# Altium footprint library TEH-C.PcbLib: 1 footprints
Each footprint in its own frame and in the unit in brackets; x right, y up, seen from the top. Pads: shape width x height; smd on the part's side, far side on the other; paste and mask are expansions set on the pad; w line width, h text height; cw(c..) or ccw(c..) is an arc to the next point about the centre after c.
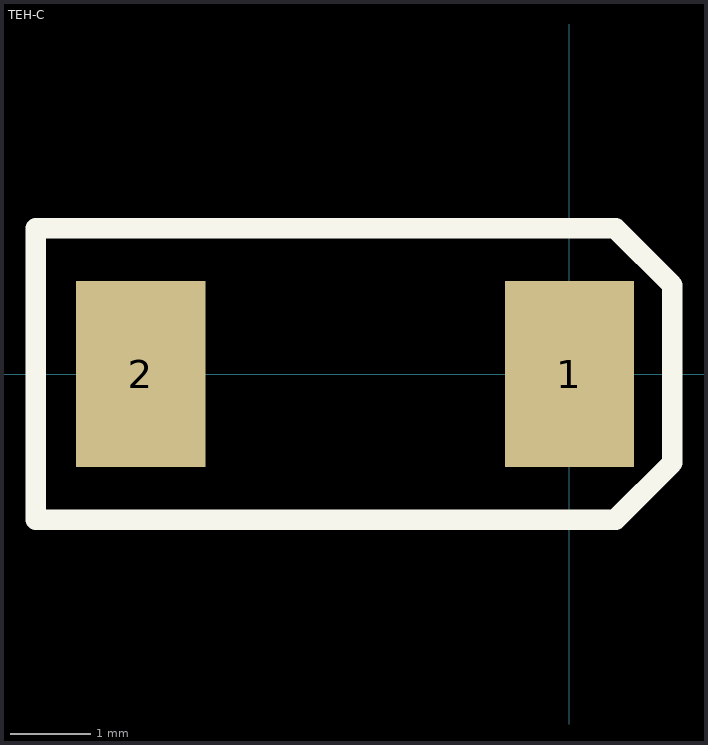
[diagram p0: the footprint, top view; thin cyan lines are the x and y axes]

## TEH-C [mm]
pads (2):
  rect 1.6x2.3 smd: 1(0,0) 2(-5.3,0)
TopOverlay:
  lines w0.254: -6.6,-1.8 0.034,-1.8 0.57,-1.8 1.27,-1.1 1.27,1.1 0.57,1.8 -0.855,1.8 -6.6,1.8 -6.6,-1.8
Mechanical4:
  text ".106" at 0,0 h0.03
  text ".110" at -5.3,0 h0.03